# EAGLE library part PCF2123BS/1,518 (library RTC)
IC RTC CLK/CALENDAR SPI 16-HVQFN Manufacturer's datasheet <https://www.nxp.com/docs/en/data-sheet/PCF2123.pdf>
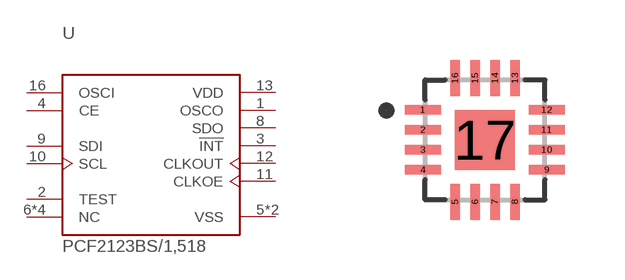
[diagram p12: symbol with the pads of PCF2123BS/1,518; footprint PCF2123BS/1,518]

Designator prefix U

## PCF2123BS/1,518 (CREATED_BY: PCBLayout.com; DIGIKEY_PN: 568-13180-1-ND; MANUFACTURER: NXP USA Inc.; MPN: PCF2123BS/1,518; PACKAGE: 16-HVQFN)  [PCF2123BS/1,518]
1  OSCO  out
2  TEST
3  !INT  out
4  CE  in
5  VSS  pwr
6  NC  pas
7  NC  pas
8  SDO  out
9  SDI  in
10  SCL  in
11  CLKOE  out
12  CLKOUT  out
13  VDD  pwr
14  NC  pas
15  NC  pas
16  OSCI  in
17  VSS  pwr

## Footprint PCF2123BS/1,518 (pad centres in mm)
smd 0.9 x 0.24: 1 -1.55,0.75; 2 -1.55,0.25; 3 -1.55,-0.25; 4 -1.55,-0.75; 9 1.55,-0.75; 10 1.55,-0.25; 11 1.55,0.25; 12 1.55,0.75
smd 0.24 x 0.9: 5 -0.75,-1.55; 6 -0.25,-1.55; 7 0.25,-1.55; 8 0.75,-1.55; 13 0.75,1.55; 14 0.25,1.55; 15 -0.25,1.55; 16 -0.75,1.55
smd 1.5 x 1.5: 17 0,0